# Altium footprint library GOSTDiode.PcbLib: 46 footprints (part 2 of 3)
Each footprint in its own frame and in the unit in brackets; x right, y up, seen from the top. Pads: shape width x height; smd on the part's side, far side on the other; paste and mask are expansions set on the pad; w line width, h text height; cw(c..) or ccw(c..) is an arc to the next point about the centre after c.
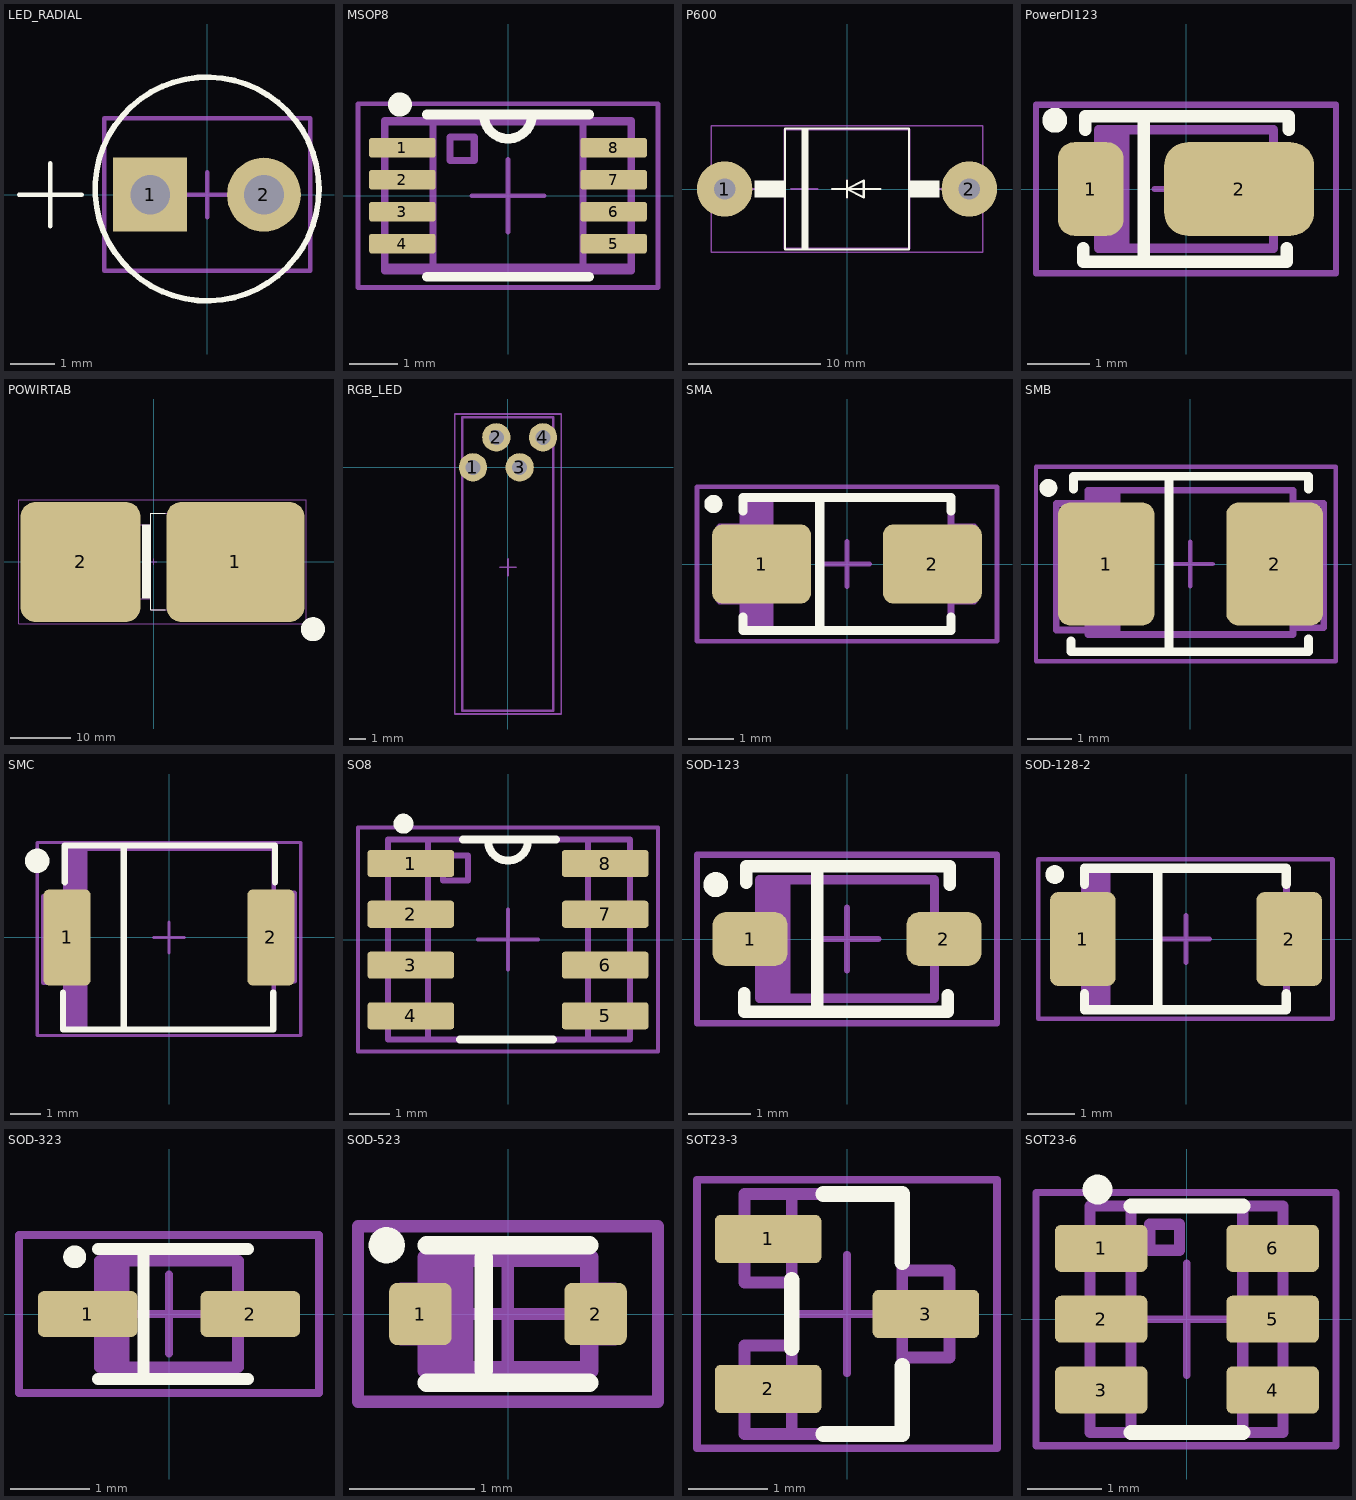
[diagram p1: the footprints below, top view; thin cyan lines are the x and y axes]

## LED_RADIAL [mil]
pads (2):
  rect 65x65 hole 35: 1(-50,0)
  round 65 hole 35: 2(50,0)
Top Overlay:
  circle w5: c0,5 r98.43
  lines w3.94: -165.35,0 -110.24,0 ; -137.8,-27.56 -137.8,27.56
Mechanical 9:
  text ".Designator" at -212.6,-212.6 h137.8
Mechanical 10:
  text ".Comment" at -118.16,-287.4 h78.74
Mechanical 15:
  lines w3.94: -19.68,0 19.68,0 ; 0,-19.68 0,19.68 ; -90.55,-66.93 -90.55,67.4 90.55,67.4 90.55,-66.93 -90.55,-66.93
3D body "User Library-LA 3366_sc.STEP": height 287.4, standoff -200.79, extent -66.62,-66.46 67.24,67.4

## MSOP8 [mil]
pads (8):
  rrect25% 54x16 smd: 1(-86,39) 2(-86,13) 3(-86,-13) 4(-86,-39) 5(86,-39) 6(86,-13) 7(86,13) 8(86,39)
Top Overlay:
  circle w9.84: c-87.95,74.17 r4.92
  lines w7.87: -66,-66 66,-66 ; -66,66 66,66 ; -19.68,66 ccw(c0,66) 19.68,66
Mechanical 9:
  text ".Designator" at -137.8,108.27 h137.8
Mechanical 10:
  text ".Comment" at -98.43,-127.95 h78.74
Mechanical 11:
  lines w5.91: -61,-61 61,-61 ; -61,-61 -61,61 ; -61,-61 61,-61 ; -61,-61 -100.37,-61 -100.37,61 -61,61 ; -61,61 -12,61 ; -61,61 -12,61 ; -12,61 12,61 ; -12,61 12,61 ; 12,61 61,61 ; 12,61 61,61 ; 61,-61 61,61 ; 61,-61 61,61 ; 61,-61 100.37,-61 100.37,61 61,61 ; -100,-58.11 100,-58.11 100,60 -100,60 -100,-58.11 ; -47.24,28.54 -47.24,47.74 -27.56,47.74 -27.56,28.54 -47.24,28.54
Mechanical 15:
  lines w3.94: -29.53,0 29.53,0 ; 0,-29.53 0,29.53 ; -122.05,-74.8 -122.05,74.8 122.05,74.8 122.05,-74.8 -122.05,-74.8
3D body "User Library-uMAX8.STEP": height 37.4, standoff 0, extent -99.38,-58.1 97.5,60.01

## P600 [mm]
pads (2):
  round 4.2 hole 1.6: 1(-9.27,0) 2(9.27,0)
Top Overlay:
  region: -3.435,4.572 -2.921,4.572 -2.921,-4.58 -3.435,-4.58
  region: 4.705,0.635 7,0.635 7,-0.636 4.705,-0.636
  region: -7,0.635 -4.699,0.635 -4.699,-0.636 -7,-0.636
  lines w0.152: -1.143,0 0,0 ; 0,-0.635 0,0 ; 0,0.635 0,0 ; 2.54,0 0,0 ; 0,0 1.27,0.635 1.27,-0.635 0,0 ; -4.699,-4.572 -4.699,4.572 4.699,4.572 4.699,-4.572 -4.699,-4.572
Mechanical 9:
  text ".Designator" at -6.3,5.6 h3.5
Mechanical 10:
  text ".Comment" at -2.9,-6.5 h2
Mechanical 11:
  lines w0.15: -9.27,0 -4.75,0 ; -4.25,0 -2.25,0 ; -3.25,-1 -3.25,1 ; 4.75,0 9.27,0 ; -4.75,-4.5 -4.75,4.5 4.75,4.5 4.75,-4.5 -4.75,-4.5
Mechanical 15:
  lines w0.1: -0.5,0 0.5,0 ; 0,-0.5 0,0.5 ; -10.3,-4.8 10.3,-4.8 10.3,4.8 -10.3,4.8 -10.3,-4.8
3D body "User Library-P600-2.STEP": height 10.13, standoff -4.11, extent -9.91,-4.572 9.91,4.528

## PowerDI123 [mm]
pads (2):
  rrect50% 1.05x1.5 smd: 1(-1.525,0)
  rrect50% 2.4x1.5 smd: 2(0.85,0)
Top Overlay:
  circle w0.2: c-2.1,1.1 r0.1
  lines w0.2: -1.64,-0.95 -1.64,-1.16 1.615,-1.16 1.615,-0.95 ; -1.615,0.95 -1.615,1.16 1.64,1.16 1.64,0.95 ; -0.675,-1.1 -0.675,1.16
Mechanical 9:
  text ".Designator" at -4.9,2 h3.5
Mechanical 10:
  text ".Comment" at -2.9,-2.6 h2
Mechanical 11:
  rectangle: -1.4,-0.95 -0.9,0.95
  lines w0.15: -1.4,-0.275 -1.9,-0.275 -1.9,0.3 -1.4,0.3 ; 1.4,-0.3 1.9,-0.3 1.9,0.275 1.4,0.275 ; -1.4,-0.95 -1.4,0.95 1.4,0.95 1.4,-0.95 -1.4,-0.95
Mechanical 15:
  lines w0.1: -0.5,0 0.5,0 ; 0,-0.5 0,0.5 ; -2.4,-1.35 -2.4,1.35 2.4,1.35 2.4,-1.35 -2.4,-1.35
3D body "User Library-powerdi123.step": height 1, standoff 0, extent -1.95,-0.965 1.925,0.965

## POWIRTAB [mm]
pads (2):
  rrect25% 23x20 smd: 1(13.6,0)
  rrect25% 20x20 smd: 2(-12.15,0)
Top Overlay:
  circle w2: c26.5,-11.2 r1
  rectangle: -1.922,-6.1 -0.5,6.2
  lines w0.2: 1.9,-8 -0.5,-8 -0.5,8.1 1.9,8.1
Mechanical 9:
  text ".Designator" at -9.25,11.75 h3.5
Mechanical 10:
  text ".Comment" at -7.5,-12.5 h2
Mechanical 11:
  lines w0.15: -0.559,-6.1 -17.1,-6.1 -17.1,6.2 -0.559,6.2 ; 17.1,-8 20.5,-4.6 20.5,4.7 17.1,8.1 ; 17.1,-8 17.1,8.1 ; 17.1,-8 -0.5,-8 -0.5,8.1 17.1,8.1
Mechanical 15:
  lines w0.1: -0.5,0 0.5,0 ; 0,-0.5 0,0.5 ; -22.4,-10.3 25.4,-10.3 25.4,10.3 -22.4,10.3 -22.4,-10.3
3D body "150EBU04 bend (1).STEP": height 4.95, standoff 0, extent -17.1,-7.95 20.5,7.95

## RGB_LED [mm]
pads (4):
  round 1.7 hole 0.9: 1(-2.1,0) 2(-0.7,1.8) 3(0.7,0) 4(2.1,1.8)
Mechanical 9:
  text ".Designator" at -6.3,5.6 h3.5
Mechanical 10:
  text ".Comment" at -3.2,3.5 h2
Mechanical 11:
  lines w0.15: -2.75,-14.6 -2.75,3 2.7,3 2.7,-14.6 -2.75,-14.6
Mechanical 15:
  lines w0.1: -0.5,-6 0.5,-6 ; 0,-6.5 0,-5.5 ; -3.2,-14.8 -3.2,3.2 3.2,3.2 3.2,-14.8 -3.2,-14.8
3D body "User Library-BL-L515.step": height 2.95, standoff -2.95, extent -2.75,-14.6 2.7,3

## SMA [mm]
height 2.67
pads (2):
  rrect25% 2.17x1.74 smd: 1(-1.88,0) 2(1.88,0)
Top Overlay:
  circle w0.2: c-2.94,1.32 r0.1
  lines w0.2: -2.29,-1.17 -2.29,-1.46 2.29,-1.46 2.29,-1.17 ; -2.29,1.17 -2.29,1.46 2.29,1.46 2.29,1.17 ; -0.6,-1.45 -0.6,1.45
Mechanical 9:
  text ".Designator" at -4.85,2.85 h3.5
Mechanical 10:
  text ".Comment" at -3,-3.25 h2
Mechanical 11:
  lines w0.15: -2.29,-0.82 -2.8,-0.82 -2.8,0.82 -2.29,0.82 ; -2.19,-1.44 -2.19,1.46 ; -2.09,-1.44 -2.09,1.46 ; -1.99,-1.44 -1.99,1.46 ; -1.89,-1.44 -1.89,1.46 ; -1.79,-1.44 -1.79,1.46 ; -1.69,-1.44 -1.69,1.46 ; 2.29,-0.82 2.8,-0.82 2.8,0.82 2.29,0.82 ; -2.29,-1.46 2.29,-1.46 2.29,1.46 -2.29,1.46 -2.29,-1.46
Mechanical 15:
  lines w0.1: -0.5,0 0.5,0 ; 0,-0.5 0,0.5 ; -3.3,-1.7 -3.3,1.7 3.3,1.7 3.3,-1.7 -3.3,-1.7
3D body "User Library-DO-214AC_SMA.step": height 2.15, standoff -0.05, extent -2.5,-1.35 2.5,1.35

## SMB [mm]
height 2.67
pads (2):
  rrect25% 2.159x2.743 smd: 1(-1.88,0) 2(1.88,0)
Top Overlay:
  circle w0.2: c-3.175,1.7 r0.1
  lines w0.2: -2.665,-1.725 -2.665,-1.96 2.64,-1.96 2.64,-1.67 ; -2.615,1.67 -2.615,1.96 2.64,1.96 2.64,1.67 ; -0.475,-1.925 -0.475,1.95
Mechanical 9:
  text ".Designator" at -5,3 h3.5
Mechanical 10:
  text ".Comment" at -3,-3.5 h2
Mechanical 11:
  lines w0.15: -2.29,-1.475 -3,-1.475 -3,1.35 -2.29,1.35 ; -2.19,-1.575 -2.19,1.65 ; -2.09,-1.575 -2.09,1.65 ; -2.015,-1.575 -2.015,1.65 ; -1.915,-1.575 -1.915,1.65 ; -1.815,-1.575 -1.815,1.65 ; -1.74,-1.575 -1.74,1.65 ; -1.64,-1.575 -1.64,1.65 ; 2.29,-1.425 2.975,-1.425 2.975,1.35 2.29,1.35 ; -2.29,-1.575 2.29,-1.575 2.29,1.65 -2.29,1.65 -2.29,-1.575
Mechanical 15:
  lines w0.1: -0.5,0 0.5,0 ; 0,-0.5 0,0.5 ; -3.45,-2.175 -3.45,2.175 3.25,2.175 3.25,-2.175 -3.45,-2.175
3D body "User Library-DO-214AA_SMB.step": height 2.24, standoff -0.01, extent -2.65,-1.85 2.65,1.85

## SMC [mm]
height 2.67
pads (2):
  rrect25% 1.54x3.14 smd: 1(-3.325,0) 2(3.325,0)
Top Overlay:
  circle w0.4: c-4.3,2.5 r0.2
  lines w0.2: -3.465,-1.8 -3.465,-3 3.4,-3 3.4,-1.8 ; -3.4,1.8 -3.4,3 3.465,3 3.465,1.8 ; -1.475,-3 -1.475,3
Mechanical 9:
  text ".Designator" at -5,3.9 h3.5
Mechanical 10:
  text ".Comment" at -3.2,-4.6 h2
Mechanical 11:
  rectangle: -3.39,-3 -2.74,2.9
  lines w0.15: -3.39,-1.475 -4.1,-1.475 -4.1,1.35 -3.39,1.35 ; -2.74,-3 -2.74,2.9 ; 3.415,-1.425 4.1,-1.425 4.1,1.45 3.415,1.45 ; -3.39,-3 -3.39,2.9 3.415,2.9 3.415,-3 -3.39,-3
Mechanical 15:
  lines w0.1: -0.5,0 0.5,0 ; 0,-0.5 0,0.5 ; -4.3,-3.2 4.3,-3.2 4.3,3.1 -4.3,3.1 -4.3,-3.2
3D body "User Library-DO-214AB-SMC.step": height 2.44, standoff -0.01, extent -3.9,-2.95 3.9,2.95

## SO8 [mm]
height 1.75
pads (8):
  rrect25% 2.17x0.68 smd: 1(-2.43,1.905) 2(-2.43,0.635) 3(-2.43,-0.635) 4(-2.43,-1.905) 5(2.43,-1.905) 6(2.43,-0.635) 7(2.43,0.635) 8(2.43,1.905)
Top Overlay:
  circle w0.25: c-2.615,2.9 r0.125
  lines w0.2: -1.2,-2.5 1.125,-2.5 ; -1.125,2.5 1.2,2.5 ; -0.5,2.475 ccw(c0,2.475) 0.5,2.475
Mechanical 9:
  text ".Designator" at -4,3.25 h3.5
Mechanical 10:
  text ".Comment" at -2.75,-4 h2
Mechanical 11:
  lines w0.15: -2,-2.5 -2,2.5 ; 2,-2.5 2,2.5 ; -3,-2.5 -3,2.5 3.05,2.5 3.05,-2.5 -3,-2.5 ; -1.625,1.475 -1,1.475 -1,2.1 -1.625,2.1 -1.625,1.475
Mechanical 15:
  lines w0.1: -0.75,0 0.75,0 ; 0,-0.75 0,0.75 ; -3.75,-2.8 3.75,-2.8 3.75,2.8 -3.75,2.8 -3.75,-2.8
3D body "SOIC-8.STEP": height 1.7, standoff 0, extent -3,-2.54 3,2.54

## SOD-123 [mm]
pads (2):
  rrect50% 1.2x0.87 smd: 1(-1.55,0) 2(1.55,0)
Top Overlay:
  circle w0.2: c-2.1,0.87 r0.1
  lines w0.2: -1.64,-0.87 -1.64,-1.16 1.615,-1.16 1.615,-0.9 ; -1.615,0.9 -1.615,1.16 1.64,1.16 1.64,0.87 ; -0.475,-1.1 -0.475,1.16
Mechanical 9:
  text ".Designator" at -4.9,2 h3.5
Mechanical 10:
  text ".Comment" at -2.9,-2.6 h2
Mechanical 11:
  rectangle: -1.4,-0.95 -0.9,0.95
  lines w0.15: -1.4,-0.275 -1.9,-0.275 -1.9,0.3 -1.4,0.3 ; 1.4,-0.3 1.9,-0.3 1.9,0.275 1.4,0.275 ; -1.4,-0.95 1.4,-0.95 1.4,0.95 -1.4,0.95 -1.4,-0.95
Mechanical 15:
  lines w0.1: -0.5,0 0.5,0 ; 0,-0.5 0,0.5 ; -2.4,-1.35 2.4,-1.35 2.4,1.35 -2.4,1.35 -2.4,-1.35
3D body "CircuitWorks-SOD123.STEP": height 1.27, standoff 0, extent -1.85,-0.8 1.85,0.8

## SOD-128-2 [mm]
height 2.67
pads (2):
  rrect25% 1.4x2 smd: 1(-2.2,0) 2(2.2,0)
Top Overlay:
  circle w0.2: c-2.8,1.375 r0.1
  lines w0.2: -2.165,-1.51 2.14,-1.51 ; -2.165,-1.46 -2.165,-1.17 ; -2.165,1.17 -2.165,1.46 ; -2.165,1.51 2.14,1.51 ; -0.6,-1.45 -0.6,1.45 ; 2.14,-1.46 2.14,-1.17 ; 2.14,1.17 2.14,1.46
Mechanical 9:
  text ".Designator" at -4.85,2.85 h3.5
Mechanical 10:
  text ".Comment" at -3,-3.25 h2
Mechanical 11:
  lines w0.15: -2.29,-0.82 -2.8,-0.82 -2.8,0.82 -2.29,0.82 ; -2.165,-1.51 2.14,-1.51 ; -2.165,-1.46 -2.165,1.46 ; -2.165,1.51 2.14,1.51 ; -2.065,-1.44 -2.065,1.46 ; -1.965,-1.44 -1.965,1.46 ; -1.865,-1.44 -1.865,1.46 ; -1.815,-1.44 -1.815,1.46 ; -1.79,-1.44 -1.79,1.46 ; -1.69,-1.44 -1.69,1.46 ; 2.14,-1.46 2.14,1.46 ; 2.14,-0.82 2.65,-0.82 2.65,0.82 2.14,0.82
Mechanical 15:
  lines w0.1: -0.5,0 0.5,0 ; 0,-0.5 0,0.5 ; -3.15,-1.7 3.125,-1.7 3.125,1.7 -3.15,1.7 -3.15,-1.7
3D body "User Library-SOD128.step": height 1.1, standoff -0.01, extent -2.5,-1.35 2.5,1.35

## SOD-323 [mm]
height 0.7
pads (2):
  rrect25% 1.26x0.58 smd: 1(-1.03,0) 2(1.03,0)
Top Overlay:
  lines w0.15: -1.125,0.725 cw(c-1.195,0.725) -1.125,0.732 ; -0.9,-0.825 1,-0.825 ; -0.9,0.825 1,0.825 ; -0.325,-0.8 -0.325,0.825
Mechanical 9:
  text ".Designator" at -4.9,2 h3.5
Mechanical 10:
  text ".Comment" at -2.9,-2.6 h2
Mechanical 11:
  lines w0.15: -0.875,-0.175 -1.3,-0.175 -1.3,0.2 -0.875,0.2 ; -0.775,-0.675 -0.775,0.675 ; -0.675,-0.675 -0.675,0.675 ; -0.575,-0.675 -0.575,0.675 ; 0.875,-0.175 1.3,-0.175 1.3,0.2 0.875,0.2 ; -0.875,-0.675 -0.875,0.675 0.875,0.675 0.875,-0.675 -0.875,-0.675
Mechanical 15:
  lines w0.1: -0.5,0 0.5,0 ; 0,-0.5 0,0.5 ; -1.9,-1 -1.9,1 1.9,1 1.9,-1 -1.9,-1
3D body "User Library-SOD323-1.step": height 1.1, standoff 0, extent -1.3,-0.675 1.3,0.675

## SOD-523 [mm]
height 0.7
pads (2):
  rrect25% 0.5x0.5 smd: 1(-0.7,0) 2(0.7,0)
Top Overlay:
  circle w0.15: c-0.97,0.55 r0.07
  lines w0.15: -0.65,-0.55 0.65,-0.55 ; -0.65,0.55 0.65,0.55 ; -0.195,-0.45 -0.195,0.45
Mechanical 9:
  text ".Designator" at -4.9,1.5 h3.5
Mechanical 10:
  text ".Comment" at -2.9,-2.2 h2
Mechanical 11:
  lines w0.15: -0.65,-0.175 -0.85,-0.175 -0.85,0.175 -0.65,0.175 ; -0.55,-0.45 -0.55,0.45 ; -0.45,-0.45 -0.45,0.45 ; -0.35,-0.45 -0.35,0.45 ; 0.65,-0.175 0.85,-0.175 0.85,0.175 0.65,0.175 ; -0.65,-0.45 0.65,-0.45 0.65,0.45 -0.65,0.45 -0.65,-0.45
Mechanical 15:
  lines w0.1: -0.5,0 0.5,0 ; 0,-0.5 0,0.5 ; -1.2,-0.7 -1.2,0.7 1.2,0.7 1.2,-0.7 -1.2,-0.7
3D body "User Library-SOD-523F.step": height 0.7, standoff 0, extent -0.8,-0.399 0.8,0.399

## SOT23-3 [mm]
height 1.12
pads (3):
  rrect25% 1.35x0.61 smd: 1(-1,0.95) 2(-1,-0.95) 3(1,0)
Top Overlay:
  lines w0.2: -0.7,-0.43 -0.7,0.43 ; -0.3,-1.52 0.7,-1.52 0.7,-0.66 ; -0.3,1.52 0.7,1.52 0.7,0.66
Mechanical 9:
  text ".Designator" at -4.25,2.75 h3.5
Mechanical 10:
  text ".Comment" at -3,-3.5 h2
Mechanical 11:
  lines w0.15: -0.7,-1.52 -0.7,1.52 ; -0.7,-0.4 -1.3,-0.4 -1.3,-1.52 0.7,-1.52 0.7,1.52 -1.3,1.52 -1.3,0.4 -0.7,0.4 ; 0.7,-0.55 1.3,-0.55 1.3,0.55 0.7,0.55
Mechanical 15:
  lines w0.1: -0.75,0 0.75,0 ; 0,-0.75 0,0.75 ; -1.9,-1.7 1.9,-1.7 1.9,1.7 -1.9,1.7 -1.9,-1.7
3D body "SOT-23-3.STEP": height 1.1, standoff 0, extent -1.15,-1.5 1.15,1.5

## SOT23-6 [mm]
height 1.12
pads (6):
  rrect25% 1.24x0.63 smd: 1(-1.15,0.95) 2(-1.15,0) 3(-1.15,-0.95) 4(1.15,-0.95) 5(1.15,0) 6(1.15,0.95)
Top Overlay:
  circle w0.2: c-1.2,1.74 r0.1
  lines w0.2: -0.75,-1.52 0.75,-1.52 ; -0.75,1.52 0.75,1.52
Mechanical 9:
  text ".Designator" at -4.275,2.525 h3.5
Mechanical 10:
  text ".Comment" at -3.025,-3.025 h2
Mechanical 11:
  lines w0.15: -0.75,-1.52 -0.75,1.52 ; 0.75,-1.52 0.75,1.52 ; -1.3,-1.52 1.29,-1.52 1.29,1.52 -1.3,1.52 -1.3,-1.52 ; -0.5,0.925 -0.5,1.275 -0.1,1.275 -0.1,0.925 -0.5,0.925
Mechanical 15:
  lines w0.1: -0.75,0 0.75,0 ; 0,-0.75 0,0.75 ; -2.025,-1.7 2,-1.7 2,1.7 -2.025,1.7 -2.025,-1.7
3D body "SW3dPS-SOT-23-6.STEP": height 1.09, standoff 0, extent -1.201,-1.397 1.225,1.397